# Altium schematic symbol library Support_BAT_1043.SchLib: 3 symbols
Pins are listed as number, name and electrical type; pins without a type are passive.

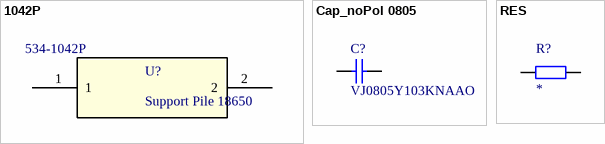
[diagram p0: symbols 1042P to RES]

## 1042P
designator U?, comment Support Pile 18650  Supplier Part Number 1: 534-1042P
No Description Available; Supplier 1: Mouser
footprint FP-1042P-MFG
pins: 1, 2

## Cap_noPol 0805
designator C?, comment VJ0805Y103KNAAO
Manufacturer: Vitramon; Part Number: VJ0805Y103KNAAO
footprint CAPC2013X145X50LL15T20 (Chip Capacitor, 2-Leads, Body 2.00x1.25mm, IPC High Density)
footprint CAPC2013X145X50NL15T20 (Chip Capacitor, 2-Leads, Body 2.00x1.25mm, IPC Medium Density)
footprint CAPC2013X145X50ML15T20 (Chip Capacitor, 2-Leads, Body 2.00x1.25mm, IPC Low Density)
pins: 1, 2
1 alternate drawing of the same symbol

## RES
designator R?, comment VALUE  (value not drawn)
Resistor; Value: *
footprint RESC2013X60X35ML10T20 (Chip Resistor, 2-Leads, Body 2.1x1.35mm, IPC Low Density)
pins: 1, 2
1 alternate drawing of the same symbol